# Altium integrated library ALTIUM-WE-PD-rev19a.IntLib: 320 symbols (part 1 of 5)
Pins are listed as number, name and electrical type; pins without a type are passive.

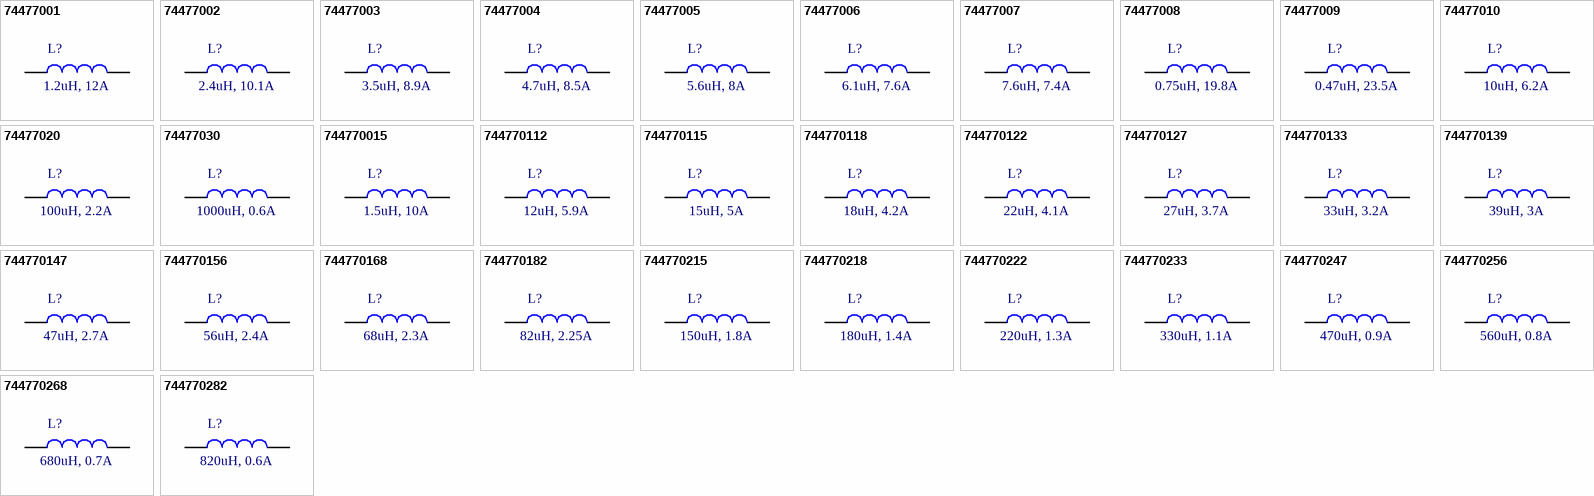
[diagram p0: symbols 74477001 to 744770282]

## 74477001
designator L?, comment 1.2uH, 12A
WE-PD SMT Power Inductor, size 1280, 1.2uH, 12A; Part Number: 74477001; DC Resistance max.: 7mOhm; Self Resonant Frequency: 45MHz; Saturation Current: 16.6A; ComponentLink1Description: Manufacturer; ComponentLink1URL: http://www.we-online.de; ComponentLink2Description: Datasheet; ComponentLink2URL: https://katalog.we-online.com/pbs/datasheet/74477001.pdf; Published Date: April 2019; Publisher: Wurth Elektronik; Rated Current: 12A; Size: 1280; Inductance: 1.2uH; Operating Temperature: -40 to +125degC; Mounting Technology: SMT; Packaging: Tape and Reel
footprint WE-PD_1280
pins: 1, 2

## 74477002
designator L?, comment 2.4uH, 10.1A
WE-PD SMT Power Inductor, size 1280, 2.4uH, 10.1A; Part Number: 74477002; DC Resistance max.: 12mOhm; Self Resonant Frequency: 41MHz; Saturation Current: 14.3A; ComponentLink1Description: Manufacturer; ComponentLink1URL: http://www.we-online.de; ComponentLink2Description: Datasheet; ComponentLink2URL: https://katalog.we-online.com/pbs/datasheet/74477002.pdf; Published Date: April 2019; Publisher: Wurth Elektronik; Rated Current: 10.1A; Size: 1280; Inductance: 2.4uH; Operating Temperature: -40 to +125degC; Mounting Technology: SMT; Packaging: Tape and Reel
footprint WE-PD_1280
pins: 1, 2

## 74477003
designator L?, comment 3.5uH, 8.9A
WE-PD SMT Power Inductor, size 1280, 3.5uH, 8.9A; Part Number: 74477003; DC Resistance max.: 14mOhm; Self Resonant Frequency: 37.5MHz; Saturation Current: 9.6A; ComponentLink1Description: Manufacturer; ComponentLink1URL: http://www.we-online.de; ComponentLink2Description: Datasheet; ComponentLink2URL: https://katalog.we-online.com/pbs/datasheet/74477003.pdf; Published Date: April 2019; Publisher: Wurth Elektronik; Rated Current: 8.9A; Size: 1280; Inductance: 3.5uH; Operating Temperature: -40 to +125degC; Mounting Technology: SMT; Packaging: Tape and Reel
footprint WE-PD_1280
pins: 1, 2

## 74477004
designator L?, comment 4.7uH, 8.5A
WE-PD SMT Power Inductor, size 1280, 4.7uH, 8.5A; Part Number: 74477004; DC Resistance max.: 16mOhm; Self Resonant Frequency: 31.2MHz; Saturation Current: 9.3A; ComponentLink1Description: Manufacturer; ComponentLink1URL: http://www.we-online.de; ComponentLink2Description: Datasheet; ComponentLink2URL: https://katalog.we-online.com/pbs/datasheet/74477004.pdf; Published Date: April 2019; Publisher: Wurth Elektronik; Rated Current: 8.5A; Size: 1280; Inductance: 4.7uH; Operating Temperature: -40 to +125degC; Mounting Technology: SMT; Packaging: Tape and Reel
footprint WE-PD_1280
pins: 1, 2

## 74477005
designator L?, comment 5.6uH, 8A
WE-PD SMT Power Inductor, size 1280, 5.6uH, 8A; Part Number: 74477005; DC Resistance max.: 17mOhm; Self Resonant Frequency: 24MHz; Saturation Current: 8.2A; ComponentLink1Description: Manufacturer; ComponentLink1URL: http://www.we-online.de; ComponentLink2Description: Datasheet; ComponentLink2URL: https://katalog.we-online.com/pbs/datasheet/74477005.pdf; Published Date: April 2019; Publisher: Wurth Elektronik; Rated Current: 8A; Size: 1280; Inductance: 5.6uH; Operating Temperature: -40 to +125degC; Mounting Technology: SMT; Packaging: Tape and Reel
footprint WE-PD_1280
pins: 1, 2

## 74477006
designator L?, comment 6.1uH, 7.6A
WE-PD SMT Power Inductor, size 1280, 6.1uH, 7.6A; Part Number: 74477006; DC Resistance max.: 18mOhm; Self Resonant Frequency: 25MHz; Saturation Current: 8.6A; ComponentLink1Description: Manufacturer; ComponentLink1URL: http://www.we-online.de; ComponentLink2Description: Datasheet; ComponentLink2URL: https://katalog.we-online.com/pbs/datasheet/74477006.pdf; Published Date: April 2019; Publisher: Wurth Elektronik; Rated Current: 7.6A; Size: 1280; Inductance: 6.1uH; Operating Temperature: -40 to +125degC; Mounting Technology: SMT; Packaging: Tape and Reel
footprint WE-PD_1280
pins: 1, 2

## 74477007
designator L?, comment 7.6uH, 7.4A
WE-PD SMT Power Inductor, size 1280, 7.6uH, 7.4A; Part Number: 74477007; DC Resistance max.: 20mOhm; Self Resonant Frequency: 21.3MHz; Saturation Current: 8A; ComponentLink1Description: Manufacturer; ComponentLink1URL: http://www.we-online.de; ComponentLink2Description: Datasheet; ComponentLink2URL: https://katalog.we-online.com/pbs/datasheet/74477007.pdf; Published Date: April 2019; Publisher: Wurth Elektronik; Rated Current: 7.4A; Size: 1280; Inductance: 7.6uH; Operating Temperature: -40 to +125degC; Mounting Technology: SMT; Packaging: Tape and Reel
footprint WE-PD_1280
pins: 1, 2

## 74477008
designator L?, comment 0.75uH, 19.8A
WE-PD SMT Power Inductor, size 1280, 0.75uH, 19.8A; Part Number: 74477008; DC Resistance max.: 4mOhm; Self Resonant Frequency: 110MHz; Saturation Current: 21A; ComponentLink1Description: Manufacturer; ComponentLink1URL: http://www.we-online.de; ComponentLink2Description: Datasheet; ComponentLink2URL: https://katalog.we-online.com/pbs/datasheet/74477008.pdf; Published Date: April 2019; Publisher: Wurth Elektronik; Rated Current: 19.8A; Size: 1280; Inductance: 0.75uH; Operating Temperature: -40 to +125degC; Mounting Technology: SMT; Packaging: Tape and Reel
footprint WE-PD_1280
pins: 1, 2

## 74477009
designator L?, comment 0.47uH, 23.5A
WE-PD SMT Power Inductor, size 1280, 0.47uH, 23.5A; Part Number: 74477009; DC Resistance max.: 3mOhm; Self Resonant Frequency: 120MHz; Saturation Current: 26.4A; ComponentLink1Description: Manufacturer; ComponentLink1URL: http://www.we-online.de; ComponentLink2Description: Datasheet; ComponentLink2URL: https://katalog.we-online.com/pbs/datasheet/74477009.pdf; Published Date: April 2019; Publisher: Wurth Elektronik; Rated Current: 23.5A; Size: 1280; Inductance: 0.47uH; Operating Temperature: -40 to +125degC; Mounting Technology: SMT; Packaging: Tape and Reel
footprint WE-PD_1280
pins: 1, 2

## 74477010
designator L?, comment 10uH, 6.2A
WE-PD SMT Power Inductor, size 1280, 10uH, 6.2A; Part Number: 74477010; DC Resistance max.: 22mOhm; Self Resonant Frequency: 18MHz; Saturation Current: 6.6A; ComponentLink1Description: Manufacturer; ComponentLink1URL: http://www.we-online.de; ComponentLink2Description: Datasheet; ComponentLink2URL: https://katalog.we-online.com/pbs/datasheet/74477010.pdf; Published Date: April 2019; Publisher: Wurth Elektronik; Rated Current: 6.2A; Size: 1280; Inductance: 10uH; Operating Temperature: -40 to +125degC; Mounting Technology: SMT; Packaging: Tape and Reel
footprint WE-PD_1280
pins: 1, 2

## 74477020
designator L?, comment 100uH, 2.2A
WE-PD SMT Power Inductor, size 1280, 100uH, 2.2A; Part Number: 74477020; DC Resistance max.: 220mOhm; Self Resonant Frequency: 5.2MHz; Saturation Current: 2.4A; ComponentLink1Description: Manufacturer; ComponentLink1URL: http://www.we-online.de; ComponentLink2Description: Datasheet; ComponentLink2URL: https://katalog.we-online.com/pbs/datasheet/74477020.pdf; Published Date: April 2019; Publisher: Wurth Elektronik; Rated Current: 2.2A; Size: 1280; Inductance: 100uH; Operating Temperature: -40 to +125degC; Mounting Technology: SMT; Packaging: Tape and Reel
footprint WE-PD_1280
pins: 1, 2

## 74477030
designator L?, comment 1000uH, 0.6A
WE-PD SMT Power Inductor, size 1280, 1000uH, 0.6A; Part Number: 74477030; DC Resistance max.: 1820mOhm; Self Resonant Frequency: 1.8MHz; Saturation Current: 0.7A; ComponentLink1Description: Manufacturer; ComponentLink1URL: http://www.we-online.de; ComponentLink2Description: Datasheet; ComponentLink2URL: https://katalog.we-online.com/pbs/datasheet/74477030.pdf; Published Date: April 2019; Publisher: Wurth Elektronik; Rated Current: 0.6A; Size: 1280; Inductance: 1000uH; Operating Temperature: -40 to +125degC; Mounting Technology: SMT; Packaging: Tape and Reel
footprint WE-PD_1280
pins: 1, 2

## 744770015
designator L?, comment 1.5uH, 10A
WE-PD SMT Power Inductor, size 1280, 1.5uH, 10A; Part Number: 744770015; DC Resistance max.: 6mOhm; Self Resonant Frequency: 42MHz; Saturation Current: 12A; ComponentLink1Description: Manufacturer; ComponentLink1URL: http://www.we-online.de; ComponentLink2Description: Datasheet; ComponentLink2URL: https://katalog.we-online.com/pbs/datasheet/744770015.pdf; Published Date: April 2019; Publisher: Wurth Elektronik; Rated Current: 10A; Size: 1280; Inductance: 1.5uH; Operating Temperature: -40 to +125degC; Mounting Technology: SMT; Packaging: Tape and Reel
footprint WE-PD_1280
pins: 1, 2

## 744770112
designator L?, comment 12uH, 5.9A
WE-PD SMT Power Inductor, size 1280, 12uH, 5.9A; Part Number: 744770112; DC Resistance max.: 24mOhm; Self Resonant Frequency: 16MHz; Saturation Current: 6.3A; ComponentLink1Description: Manufacturer; ComponentLink1URL: http://www.we-online.de; ComponentLink2Description: Datasheet; ComponentLink2URL: https://katalog.we-online.com/pbs/datasheet/744770112.pdf; Published Date: April 2019; Publisher: Wurth Elektronik; Rated Current: 5.9A; Size: 1280; Inductance: 12uH; Operating Temperature: -40 to +125degC; Mounting Technology: SMT; Packaging: Tape and Reel
footprint WE-PD_1280
pins: 1, 2

## 744770115
designator L?, comment 15uH, 5A
WE-PD SMT Power Inductor, size 1280, 15uH, 5A; Part Number: 744770115; DC Resistance max.: 27mOhm; Self Resonant Frequency: 14.5MHz; Saturation Current: 6A; ComponentLink1Description: Manufacturer; ComponentLink1URL: http://www.we-online.de; ComponentLink2Description: Datasheet; ComponentLink2URL: https://katalog.we-online.com/pbs/datasheet/744770115.pdf; Published Date: April 2019; Publisher: Wurth Elektronik; Rated Current: 5A; Size: 1280; Inductance: 15uH; Operating Temperature: -40 to +125degC; Mounting Technology: SMT; Packaging: Tape and Reel
footprint WE-PD_1280
pins: 1, 2

## 744770118
designator L?, comment 18uH, 4.2A
WE-PD SMT Power Inductor, size 1280, 18uH, 4.2A; Part Number: 744770118; DC Resistance max.: 39mOhm; Self Resonant Frequency: 13.2MHz; Saturation Current: 5.4A; ComponentLink1Description: Manufacturer; ComponentLink1URL: http://www.we-online.de; ComponentLink2Description: Datasheet; ComponentLink2URL: https://katalog.we-online.com/pbs/datasheet/744770118.pdf; Published Date: April 2019; Publisher: Wurth Elektronik; Rated Current: 4.2A; Size: 1280; Inductance: 18uH; Operating Temperature: -40 to +125degC; Mounting Technology: SMT; Packaging: Tape and Reel
footprint WE-PD_1280
pins: 1, 2

## 744770122
designator L?, comment 22uH, 4.1A
WE-PD SMT Power Inductor, size 1280, 22uH, 4.1A; Part Number: 744770122; DC Resistance max.: 43mOhm; Self Resonant Frequency: 12MHz; Saturation Current: 5A; ComponentLink1Description: Manufacturer; ComponentLink1URL: http://www.we-online.de; ComponentLink2Description: Datasheet; ComponentLink2URL: https://katalog.we-online.com/pbs/datasheet/744770122.pdf; Published Date: April 2019; Publisher: Wurth Elektronik; Rated Current: 4.1A; Size: 1280; Inductance: 22uH; Operating Temperature: -40 to +125degC; Mounting Technology: SMT; Packaging: Tape and Reel
footprint WE-PD_1280
pins: 1, 2

## 744770127
designator L?, comment 27uH, 3.7A
WE-PD SMT Power Inductor, size 1280, 27uH, 3.7A; Part Number: 744770127; DC Resistance max.: 46mOhm; Self Resonant Frequency: 10MHz; Saturation Current: 3.8A; ComponentLink1Description: Manufacturer; ComponentLink1URL: http://www.we-online.de; ComponentLink2Description: Datasheet; ComponentLink2URL: https://katalog.we-online.com/pbs/datasheet/744770127.pdf; Published Date: April 2019; Publisher: Wurth Elektronik; Rated Current: 3.7A; Size: 1280; Inductance: 27uH; Operating Temperature: -40 to +125degC; Mounting Technology: SMT; Packaging: Tape and Reel
footprint WE-PD_1280
pins: 1, 2

## 744770133
designator L?, comment 33uH, 3.2A
WE-PD SMT Power Inductor, size 1280, 33uH, 3.2A; Part Number: 744770133; DC Resistance max.: 64mOhm; Self Resonant Frequency: 8.5MHz; Saturation Current: 3.6A; ComponentLink1Description: Manufacturer; ComponentLink1URL: http://www.we-online.de; ComponentLink2Description: Datasheet; ComponentLink2URL: https://katalog.we-online.com/pbs/datasheet/744770133.pdf; Published Date: April 2019; Publisher: Wurth Elektronik; Rated Current: 3.2A; Size: 1280; Inductance: 33uH; Operating Temperature: -40 to +125degC; Mounting Technology: SMT; Packaging: Tape and Reel
footprint WE-PD_1280
pins: 1, 2

## 744770139
designator L?, comment 39uH, 3A
WE-PD SMT Power Inductor, size 1280, 39uH, 3A; Part Number: 744770139; DC Resistance max.: 73mOhm; Self Resonant Frequency: 8.2MHz; Saturation Current: 3.5A; ComponentLink1Description: Manufacturer; ComponentLink1URL: http://www.we-online.de; ComponentLink2Description: Datasheet; ComponentLink2URL: https://katalog.we-online.com/pbs/datasheet/744770139.pdf; Published Date: April 2019; Publisher: Wurth Elektronik; Rated Current: 3A; Size: 1280; Inductance: 39uH; Operating Temperature: -40 to +125degC; Mounting Technology: SMT; Packaging: Tape and Reel
footprint WE-PD_1280
pins: 1, 2

## 744770147
designator L?, comment 47uH, 2.7A
WE-PD SMT Power Inductor, size 1280, 47uH, 2.7A; Part Number: 744770147; DC Resistance max.: 100mOhm; Self Resonant Frequency: 7.9MHz; Saturation Current: 3A; ComponentLink1Description: Manufacturer; ComponentLink1URL: http://www.we-online.de; ComponentLink2Description: Datasheet; ComponentLink2URL: https://katalog.we-online.com/pbs/datasheet/744770147.pdf; Published Date: April 2019; Publisher: Wurth Elektronik; Rated Current: 2.7A; Size: 1280; Inductance: 47uH; Operating Temperature: -40 to +125degC; Mounting Technology: SMT; Packaging: Tape and Reel
footprint WE-PD_1280
pins: 1, 2

## 744770156
designator L?, comment 56uH, 2.4A
WE-PD SMT Power Inductor, size 1280, 56uH, 2.4A; Part Number: 744770156; DC Resistance max.: 110mOhm; Self Resonant Frequency: 7.1MHz; Saturation Current: 2.9A; ComponentLink1Description: Manufacturer; ComponentLink1URL: http://www.we-online.de; ComponentLink2Description: Datasheet; ComponentLink2URL: https://katalog.we-online.com/pbs/datasheet/744770156.pdf; Published Date: April 2019; Publisher: Wurth Elektronik; Rated Current: 2.4A; Size: 1280; Inductance: 56uH; Operating Temperature: -40 to +125degC; Mounting Technology: SMT; Packaging: Tape and Reel
footprint WE-PD_1280
pins: 1, 2

## 744770168
designator L?, comment 68uH, 2.3A
WE-PD SMT Power Inductor, size 1280, 68uH, 2.3A; Part Number: 744770168; DC Resistance max.: 140mOhm; Self Resonant Frequency: 6.4MHz; Saturation Current: 2.5A; ComponentLink1Description: Manufacturer; ComponentLink1URL: http://www.we-online.de; ComponentLink2Description: Datasheet; ComponentLink2URL: https://katalog.we-online.com/pbs/datasheet/744770168.pdf; Published Date: April 2019; Publisher: Wurth Elektronik; Rated Current: 2.3A; Size: 1280; Inductance: 68uH; Operating Temperature: -40 to +125degC; Mounting Technology: SMT; Packaging: Tape and Reel
footprint WE-PD_1280
pins: 1, 2

## 744770182
designator L?, comment 82uH, 2.25A
WE-PD SMT Power Inductor, size 1280, 82uH, 2.25A; Part Number: 744770182; DC Resistance max.: 160mOhm; Self Resonant Frequency: 5.5MHz; Saturation Current: 2.45A; ComponentLink1Description: Manufacturer; ComponentLink1URL: http://www.we-online.de; ComponentLink2Description: Datasheet; ComponentLink2URL: https://katalog.we-online.com/pbs/datasheet/744770182.pdf; Published Date: April 2019; Publisher: Wurth Elektronik; Rated Current: 2.25A; Size: 1280; Inductance: 82uH; Operating Temperature: -40 to +125degC; Mounting Technology: SMT; Packaging: Tape and Reel
footprint WE-PD_1280
pins: 1, 2

## 744770215
designator L?, comment 150uH, 1.8A
WE-PD SMT Power Inductor, size 1280, 150uH, 1.8A; Part Number: 744770215; DC Resistance max.: 280mOhm; Self Resonant Frequency: 4MHz; ComponentLink1Description: Manufacturer; ComponentLink1URL: http://www.we-online.de; ComponentLink2Description: Datasheet; ComponentLink2URL: https://katalog.we-online.com/pbs/datasheet/744770215.pdf; Published Date: April 2019; Publisher: Wurth Elektronik; Rated Current: 1.8A; Size: 1280; Inductance: 150uH; Operating Temperature: -40 to +125degC; Mounting Technology: SMT; Packaging: Tape and Reel; Saturation Current: 1.8A
footprint WE-PD_1280
pins: 1, 2

## 744770218
designator L?, comment 180uH, 1.4A
WE-PD SMT Power Inductor, size 1280, 180uH, 1.4A; Part Number: 744770218; DC Resistance max.: 350mOhm; Self Resonant Frequency: 4.2MHz; Saturation Current: 1.6A; ComponentLink1Description: Manufacturer; ComponentLink1URL: http://www.we-online.de; ComponentLink2Description: Datasheet; ComponentLink2URL: https://katalog.we-online.com/pbs/datasheet/744770218.pdf; Published Date: April 2019; Publisher: Wurth Elektronik; Rated Current: 1.4A; Size: 1280; Inductance: 180uH; Operating Temperature: -40 to +125degC; Mounting Technology: SMT; Packaging: Tape and Reel
footprint WE-PD_1280
pins: 1, 2

## 744770222
designator L?, comment 220uH, 1.3A
WE-PD SMT Power Inductor, size 1280, 220uH, 1.3A; Part Number: 744770222; DC Resistance max.: 390mOhm; Self Resonant Frequency: 3.8MHz; Saturation Current: 1.49A; ComponentLink1Description: Manufacturer; ComponentLink1URL: http://www.we-online.de; ComponentLink2Description: Datasheet; ComponentLink2URL: https://katalog.we-online.com/pbs/datasheet/744770222.pdf; Published Date: April 2019; Publisher: Wurth Elektronik; Rated Current: 1.3A; Size: 1280; Inductance: 220uH; Operating Temperature: -40 to +125degC; Mounting Technology: SMT; Packaging: Tape and Reel
footprint WE-PD_1280
pins: 1, 2

## 744770233
designator L?, comment 330uH, 1.1A
WE-PD SMT Power Inductor, size 1280, 330uH, 1.1A; Part Number: 744770233; DC Resistance max.: 640mOhm; Self Resonant Frequency: 3MHz; ComponentLink1Description: Manufacturer; ComponentLink1URL: http://www.we-online.de; ComponentLink2Description: Datasheet; ComponentLink2URL: https://katalog.we-online.com/pbs/datasheet/744770233.pdf; Published Date: April 2019; Publisher: Wurth Elektronik; Rated Current: 1.1A; Size: 1280; Inductance: 330uH; Operating Temperature: -40 to +125degC; Mounting Technology: SMT; Packaging: Tape and Reel; Saturation Current: 1.1A
footprint WE-PD_1280
pins: 1, 2

## 744770247
designator L?, comment 470uH, 0.9A
WE-PD SMT Power Inductor, size 1280, 470uH, 0.9A; Part Number: 744770247; DC Resistance max.: 980mOhm; Self Resonant Frequency: 2.6MHz; ComponentLink1Description: Manufacturer; ComponentLink1URL: http://www.we-online.de; ComponentLink2Description: Datasheet; ComponentLink2URL: https://katalog.we-online.com/pbs/datasheet/744770247.pdf; Published Date: April 2019; Publisher: Wurth Elektronik; Rated Current: 0.9A; Size: 1280; Inductance: 470uH; Operating Temperature: -40 to +125degC; Mounting Technology: SMT; Packaging: Tape and Reel; Saturation Current: 0.9A
footprint WE-PD_1280
pins: 1, 2

## 744770256
designator L?, comment 560uH, 0.8A
WE-PD SMT Power Inductor, size 1280, 560uH, 0.8A; Part Number: 744770256; DC Resistance max.: 1070mOhm; Self Resonant Frequency: 2.5MHz; Saturation Current: 0.9A; ComponentLink1Description: Manufacturer; ComponentLink1URL: http://www.we-online.de; ComponentLink2Description: Datasheet; ComponentLink2URL: https://katalog.we-online.com/pbs/datasheet/744770256.pdf; Published Date: April 2019; Publisher: Wurth Elektronik; Rated Current: 0.8A; Size: 1280; Inductance: 560uH; Operating Temperature: -40 to +125degC; Mounting Technology: SMT; Packaging: Tape and Reel
footprint WE-PD_1280
pins: 1, 2

## 744770268
designator L?, comment 680uH, 0.7A
WE-PD SMT Power Inductor, size 1280, 680uH, 0.7A; Part Number: 744770268; DC Resistance max.: 1460mOhm; Self Resonant Frequency: 2.2MHz; Saturation Current: 0.8A; ComponentLink1Description: Manufacturer; ComponentLink1URL: http://www.we-online.de; ComponentLink2Description: Datasheet; ComponentLink2URL: https://katalog.we-online.com/pbs/datasheet/744770268.pdf; Published Date: April 2019; Publisher: Wurth Elektronik; Rated Current: 0.7A; Size: 1280; Inductance: 680uH; Operating Temperature: -40 to +125degC; Mounting Technology: SMT; Packaging: Tape and Reel
footprint WE-PD_1280
pins: 1, 2

## 744770282
designator L?, comment 820uH, 0.6A
WE-PD SMT Power Inductor, size 1280, 820uH, 0.6A; Part Number: 744770282; DC Resistance max.: 1640mOhm; Self Resonant Frequency: 2MHz; Saturation Current: 0.8A; ComponentLink1Description: Manufacturer; ComponentLink1URL: http://www.we-online.de; ComponentLink2Description: Datasheet; ComponentLink2URL: https://katalog.we-online.com/pbs/datasheet/744770282.pdf; Published Date: April 2019; Publisher: Wurth Elektronik; Rated Current: 0.6A; Size: 1280; Inductance: 820uH; Operating Temperature: -40 to +125degC; Mounting Technology: SMT; Packaging: Tape and Reel
footprint WE-PD_1280
pins: 1, 2


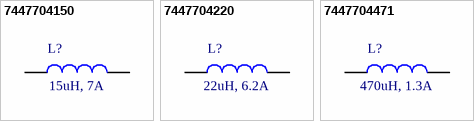
[diagram p1: symbols 7447704150 to 7447704471]

## 7447704150
designator L?, comment 15uH, 7A
WE-PD SMT Power Inductor, size 1510, 15uH, 7A; Part Number: 7447704150; DC Resistance max.: 26mOhm; Self Resonant Frequency: 20.5MHz; Saturation Current: 8.8A; ComponentLink1Description: Manufacturer; ComponentLink1URL: http://www.we-online.de; ComponentLink2Description: Datasheet; ComponentLink2URL: https://katalog.we-online.com/pbs/datasheet/7447704150.pdf; Published Date: April 2019; Publisher: Wurth Elektronik; Rated Current: 7A; Size: 1510; Inductance: 15uH; Operating Temperature: -40 to +125degC; Mounting Technology: SMT; Packaging: Tape and Reel
footprint WE-PD_1510
pins: 1, 2

## 7447704220
designator L?, comment 22uH, 6.2A
WE-PD SMT Power Inductor, size 1510, 22uH, 6.2A; Part Number: 7447704220; DC Resistance max.: 33mOhm; Self Resonant Frequency: 11.5MHz; Saturation Current: 7.2A; ComponentLink1Description: Manufacturer; ComponentLink1URL: http://www.we-online.de; ComponentLink2Description: Datasheet; ComponentLink2URL: https://katalog.we-online.com/pbs/datasheet/7447704220.pdf; Published Date: April 2019; Publisher: Wurth Elektronik; Rated Current: 6.2A; Size: 1510; Inductance: 22uH; Operating Temperature: -40 to +125degC; Mounting Technology: SMT; Packaging: Tape and Reel
footprint WE-PD_1510
pins: 1, 2

## 7447704471
designator L?, comment 470uH, 1.3A
WE-PD SMT Power Inductor, size 1510, 470uH, 1.3A; Part Number: 7447704471; DC Resistance max.: 500mOhm; Self Resonant Frequency: 1.7MHz; Saturation Current: 1.7A; ComponentLink1Description: Manufacturer; ComponentLink1URL: http://www.we-online.de; ComponentLink2Description: Datasheet; ComponentLink2URL: https://katalog.we-online.com/pbs/datasheet/7447704471.pdf; Published Date: April 2019; Publisher: Wurth Elektronik; Rated Current: 1.3A; Size: 1510; Inductance: 470uH; Operating Temperature: -40 to +125degC; Mounting Technology: SMT; Packaging: Tape and Reel
footprint WE-PD_1510
pins: 1, 2


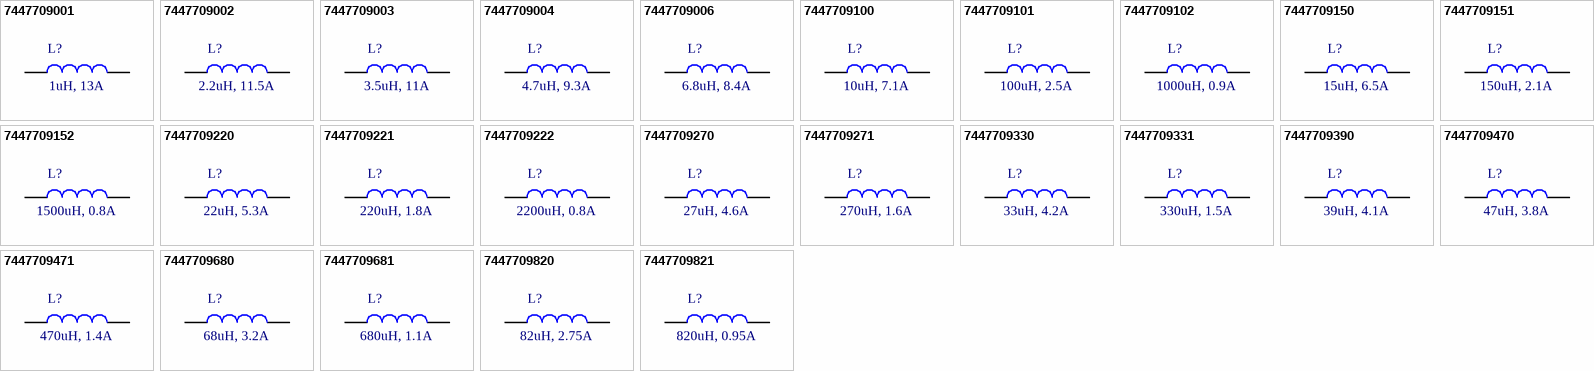
[diagram p2: symbols 7447709001 to 7447709821]

## 7447709001
designator L?, comment 1uH, 13A
WE-PD SMT Power Inductor, size 1210, 1uH, 13A; Part Number: 7447709001; DC Resistance max.: 6mOhm; Self Resonant Frequency: 120MHz; Saturation Current: 25A; ComponentLink1Description: Manufacturer; ComponentLink1URL: http://www.we-online.de; ComponentLink2Description: Datasheet; ComponentLink2URL: https://katalog.we-online.com/pbs/datasheet/7447709001.pdf; Published Date: April 2019; Publisher: Wurth Elektronik; Rated Current: 13A; Size: 1210; Inductance: 1uH; Operating Temperature: -40 to +125degC; Mounting Technology: SMT; Packaging: Tape and Reel
footprint WE-PD_1210
pins: 1, 2

## 7447709002
designator L?, comment 2.2uH, 11.5A
WE-PD SMT Power Inductor, size 1210, 2.2uH, 11.5A; Part Number: 7447709002; DC Resistance max.: 6mOhm; Self Resonant Frequency: 65MHz; Saturation Current: 20A; ComponentLink1Description: Manufacturer; ComponentLink1URL: http://www.we-online.de; ComponentLink2Description: Datasheet; ComponentLink2URL: https://katalog.we-online.com/pbs/datasheet/7447709002.pdf; Published Date: April 2019; Publisher: Wurth Elektronik; Rated Current: 11.5A; Size: 1210; Inductance: 2.2uH; Operating Temperature: -40 to +125degC; Mounting Technology: SMT; Packaging: Tape and Reel
footprint WE-PD_1210
pins: 1, 2

## 7447709003
designator L?, comment 3.5uH, 11A
WE-PD SMT Power Inductor, size 1210, 3.5uH, 11A; Part Number: 7447709003; DC Resistance max.: 9mOhm; Self Resonant Frequency: 45MHz; Saturation Current: 16.5A; ComponentLink1Description: Manufacturer; ComponentLink1URL: http://www.we-online.de; ComponentLink2Description: Datasheet; ComponentLink2URL: https://katalog.we-online.com/pbs/datasheet/7447709003.pdf; Published Date: April 2019; Publisher: Wurth Elektronik; Rated Current: 11A; Size: 1210; Inductance: 3.5uH; Operating Temperature: -40 to +125degC; Mounting Technology: SMT; Packaging: Tape and Reel
footprint WE-PD_1210
pins: 1, 2

## 7447709004
designator L?, comment 4.7uH, 9.3A
WE-PD SMT Power Inductor, size 1210, 4.7uH, 9.3A; Part Number: 7447709004; DC Resistance max.: 11mOhm; Self Resonant Frequency: 38MHz; Saturation Current: 13A; ComponentLink1Description: Manufacturer; ComponentLink1URL: http://www.we-online.de; ComponentLink2Description: Datasheet; ComponentLink2URL: https://katalog.we-online.com/pbs/datasheet/7447709004.pdf; Published Date: April 2019; Publisher: Wurth Elektronik; Rated Current: 9.3A; Size: 1210; Inductance: 4.7uH; Operating Temperature: -40 to +125degC; Mounting Technology: SMT; Packaging: Tape and Reel
footprint WE-PD_1210
pins: 1, 2

## 7447709006
designator L?, comment 6.8uH, 8.4A
WE-PD SMT Power Inductor, size 1210, 6.8uH, 8.4A; Part Number: 7447709006; DC Resistance max.: 14mOhm; Self Resonant Frequency: 23MHz; Saturation Current: 12.8A; ComponentLink1Description: Manufacturer; ComponentLink1URL: http://www.we-online.de; ComponentLink2Description: Datasheet; ComponentLink2URL: https://katalog.we-online.com/pbs/datasheet/7447709006.pdf; Published Date: April 2019; Publisher: Wurth Elektronik; Rated Current: 8.4A; Size: 1210; Inductance: 6.8uH; Operating Temperature: -40 to +125degC; Mounting Technology: SMT; Packaging: Tape and Reel
footprint WE-PD_1210
pins: 1, 2

## 7447709100
designator L?, comment 10uH, 7.1A
WE-PD SMT Power Inductor, size 1210, 10uH, 7.1A; Part Number: 7447709100; DC Resistance max.: 21mOhm; Self Resonant Frequency: 21MHz; Saturation Current: 10.5A; ComponentLink1Description: Manufacturer; ComponentLink1URL: http://www.we-online.de; ComponentLink2Description: Datasheet; ComponentLink2URL: https://katalog.we-online.com/pbs/datasheet/7447709100.pdf; Published Date: April 2019; Publisher: Wurth Elektronik; Rated Current: 7.1A; Size: 1210; Inductance: 10uH; Operating Temperature: -40 to +125degC; Mounting Technology: SMT; Packaging: Tape and Reel
footprint WE-PD_1210
pins: 1, 2

## 7447709101
designator L?, comment 100uH, 2.5A
WE-PD SMT Power Inductor, size 1210, 100uH, 2.5A; Part Number: 7447709101; DC Resistance max.: 110mOhm; Self Resonant Frequency: 4.3MHz; Saturation Current: 3.1A; ComponentLink1Description: Manufacturer; ComponentLink1URL: http://www.we-online.de; ComponentLink2Description: Datasheet; ComponentLink2URL: https://katalog.we-online.com/pbs/datasheet/7447709101.pdf; Published Date: April 2019; Publisher: Wurth Elektronik; Rated Current: 2.5A; Size: 1210; Inductance: 100uH; Operating Temperature: -40 to +125degC; Mounting Technology: SMT; Packaging: Tape and Reel
footprint WE-PD_1210
pins: 1, 2

## 7447709102
designator L?, comment 1000uH, 0.9A
WE-PD SMT Power Inductor, size 1210, 1000uH, 0.9A; Part Number: 7447709102; DC Resistance max.: 1200mOhm; Self Resonant Frequency: 1.1MHz; Saturation Current: 1A; ComponentLink1Description: Manufacturer; ComponentLink1URL: http://www.we-online.de; ComponentLink2Description: Datasheet; ComponentLink2URL: https://katalog.we-online.com/pbs/datasheet/7447709102.pdf; Published Date: April 2019; Publisher: Wurth Elektronik; Rated Current: 0.9A; Size: 1210; Inductance: 1000uH; Operating Temperature: -40 to +125degC; Mounting Technology: SMT; Packaging: Tape and Reel
footprint WE-PD_1210
pins: 1, 2

## 7447709150
designator L?, comment 15uH, 6.5A
WE-PD SMT Power Inductor, size 1210, 15uH, 6.5A; Part Number: 7447709150; DC Resistance max.: 26mOhm; Self Resonant Frequency: 17MHz; Saturation Current: 8A; ComponentLink1Description: Manufacturer; ComponentLink1URL: http://www.we-online.de; ComponentLink2Description: Datasheet; ComponentLink2URL: https://katalog.we-online.com/pbs/datasheet/7447709150.pdf; Published Date: April 2019; Publisher: Wurth Elektronik; Rated Current: 6.5A; Size: 1210; Inductance: 15uH; Operating Temperature: -40 to +125degC; Mounting Technology: SMT; Packaging: Tape and Reel
footprint WE-PD_1210
pins: 1, 2

## 7447709151
designator L?, comment 150uH, 2.1A
WE-PD SMT Power Inductor, size 1210, 150uH, 2.1A; Part Number: 7447709151; DC Resistance max.: 200mOhm; Self Resonant Frequency: 3.5MHz; Saturation Current: 2.7A; ComponentLink1Description: Manufacturer; ComponentLink1URL: http://www.we-online.de; ComponentLink2Description: Datasheet; ComponentLink2URL: https://katalog.we-online.com/pbs/datasheet/7447709151.pdf; Published Date: April 2019; Publisher: Wurth Elektronik; Rated Current: 2.1A; Size: 1210; Inductance: 150uH; Operating Temperature: -40 to +125degC; Mounting Technology: SMT; Packaging: Tape and Reel
footprint WE-PD_1210
pins: 1, 2

## 7447709152
designator L?, comment 1500uH, 0.8A
WE-PD SMT Power Inductor, size 1210, 1500uH, 0.8A; Part Number: 7447709152; DC Resistance max.: 2300mOhm; Self Resonant Frequency: 0.9MHz; ComponentLink1Description: Manufacturer; ComponentLink1URL: http://www.we-online.de; ComponentLink2Description: Datasheet; ComponentLink2URL: https://katalog.we-online.com/pbs/datasheet/7447709152.pdf; Published Date: April 2019; Publisher: Wurth Elektronik; Rated Current: 0.8A; Size: 1210; Inductance: 1500uH; Operating Temperature: -40 to +125degC; Mounting Technology: SMT; Packaging: Tape and Reel; Saturation Current: 0.8A
footprint WE-PD_1210
pins: 1, 2

## 7447709220
designator L?, comment 22uH, 5.3A
WE-PD SMT Power Inductor, size 1210, 22uH, 5.3A; Part Number: 7447709220; DC Resistance max.: 28mOhm; Self Resonant Frequency: 10MHz; Saturation Current: 6.5A; ComponentLink1Description: Manufacturer; ComponentLink1URL: http://www.we-online.de; ComponentLink2Description: Datasheet; ComponentLink2URL: https://katalog.we-online.com/pbs/datasheet/7447709220.pdf; Published Date: April 2019; Publisher: Wurth Elektronik; Rated Current: 5.3A; Size: 1210; Inductance: 22uH; Operating Temperature: -40 to +125degC; Mounting Technology: SMT; Packaging: Tape and Reel
footprint WE-PD_1210
pins: 1, 2

## 7447709221
designator L?, comment 220uH, 1.8A
WE-PD SMT Power Inductor, size 1210, 220uH, 1.8A; Part Number: 7447709221; DC Resistance max.: 300mOhm; Self Resonant Frequency: 2.7MHz; Saturation Current: 2.2A; ComponentLink1Description: Manufacturer; ComponentLink1URL: http://www.we-online.de; ComponentLink2Description: Datasheet; ComponentLink2URL: https://katalog.we-online.com/pbs/datasheet/7447709221.pdf; Published Date: April 2019; Publisher: Wurth Elektronik; Rated Current: 1.8A; Size: 1210; Inductance: 220uH; Operating Temperature: -40 to +125degC; Mounting Technology: SMT; Packaging: Tape and Reel
footprint WE-PD_1210
pins: 1, 2

## 7447709222
designator L?, comment 2200uH, 0.8A
WE-PD SMT Power Inductor, size 1210, 2200uH, 0.8A; Part Number: 7447709222; DC Resistance max.: 3750mOhm; Self Resonant Frequency: 0.66MHz; Saturation Current: 0.75A; ComponentLink1Description: Manufacturer; ComponentLink1URL: http://www.we-online.de; ComponentLink2Description: Datasheet; ComponentLink2URL: https://katalog.we-online.com/pbs/datasheet/7447709222.pdf; Published Date: April 2019; Publisher: Wurth Elektronik; Rated Current: 0.8A; Size: 1210; Inductance: 2200uH; Operating Temperature: -40 to +125degC; Mounting Technology: SMT; Packaging: Tape and Reel
footprint WE-PD_1210
pins: 1, 2

## 7447709270
designator L?, comment 27uH, 4.6A
WE-PD SMT Power Inductor, size 1210, 27uH, 4.6A; Part Number: 7447709270; DC Resistance max.: 40mOhm; Self Resonant Frequency: 8MHz; Saturation Current: 5.8A; ComponentLink1Description: Manufacturer; ComponentLink1URL: http://www.we-online.de; ComponentLink2Description: Datasheet; ComponentLink2URL: https://katalog.we-online.com/pbs/datasheet/7447709270.pdf; Published Date: April 2019; Publisher: Wurth Elektronik; Rated Current: 4.6A; Size: 1210; Inductance: 27uH; Operating Temperature: -40 to +125degC; Mounting Technology: SMT; Packaging: Tape and Reel
footprint WE-PD_1210
pins: 1, 2

## 7447709271
designator L?, comment 270uH, 1.6A
WE-PD SMT Power Inductor, size 1210, 270uH, 1.6A; Part Number: 7447709271; DC Resistance max.: 330mOhm; Self Resonant Frequency: 2.5MHz; Saturation Current: 2.1A; ComponentLink1Description: Manufacturer; ComponentLink1URL: http://www.we-online.de; ComponentLink2Description: Datasheet; ComponentLink2URL: https://katalog.we-online.com/pbs/datasheet/7447709271.pdf; Published Date: April 2019; Publisher: Wurth Elektronik; Rated Current: 1.6A; Size: 1210; Inductance: 270uH; Operating Temperature: -40 to +125degC; Mounting Technology: SMT; Packaging: Tape and Reel
footprint WE-PD_1210
pins: 1, 2

## 7447709330
designator L?, comment 33uH, 4.2A
WE-PD SMT Power Inductor, size 1210, 33uH, 4.2A; Part Number: 7447709330; DC Resistance max.: 45mOhm; Self Resonant Frequency: 8.5MHz; Saturation Current: 5.5A; ComponentLink1Description: Manufacturer; ComponentLink1URL: http://www.we-online.de; ComponentLink2Description: Datasheet; ComponentLink2URL: https://katalog.we-online.com/pbs/datasheet/7447709330.pdf; Published Date: April 2019; Publisher: Wurth Elektronik; Rated Current: 4.2A; Size: 1210; Inductance: 33uH; Operating Temperature: -40 to +125degC; Mounting Technology: SMT; Packaging: Tape and Reel
footprint WE-PD_1210
pins: 1, 2

## 7447709331
designator L?, comment 330uH, 1.5A
WE-PD SMT Power Inductor, size 1210, 330uH, 1.5A; Part Number: 7447709331; DC Resistance max.: 430mOhm; Self Resonant Frequency: 2MHz; Saturation Current: 1.7A; ComponentLink1Description: Manufacturer; ComponentLink1URL: http://www.we-online.de; ComponentLink2Description: Datasheet; ComponentLink2URL: https://katalog.we-online.com/pbs/datasheet/7447709331.pdf; Published Date: April 2019; Publisher: Wurth Elektronik; Rated Current: 1.5A; Size: 1210; Inductance: 330uH; Operating Temperature: -40 to +125degC; Mounting Technology: SMT; Packaging: Tape and Reel
footprint WE-PD_1210
pins: 1, 2

## 7447709390
designator L?, comment 39uH, 4.1A
WE-PD SMT Power Inductor, size 1210, 39uH, 4.1A; Part Number: 7447709390; DC Resistance max.: 56mOhm; Self Resonant Frequency: 6MHz; Saturation Current: 5A; ComponentLink1Description: Manufacturer; ComponentLink1URL: http://www.we-online.de; ComponentLink2Description: Datasheet; ComponentLink2URL: https://katalog.we-online.com/pbs/datasheet/7447709390.pdf; Published Date: April 2019; Publisher: Wurth Elektronik; Rated Current: 4.1A; Size: 1210; Inductance: 39uH; Operating Temperature: -40 to +125degC; Mounting Technology: SMT; Packaging: Tape and Reel
footprint WE-PD_1210
pins: 1, 2

## 7447709470
designator L?, comment 47uH, 3.8A
WE-PD SMT Power Inductor, size 1210, 47uH, 3.8A; Part Number: 7447709470; DC Resistance max.: 60mOhm; Self Resonant Frequency: 6.5MHz; Saturation Current: 4.5A; ComponentLink1Description: Manufacturer; ComponentLink1URL: http://www.we-online.de; ComponentLink2Description: Datasheet; ComponentLink2URL: https://katalog.we-online.com/pbs/datasheet/7447709470.pdf; Published Date: April 2019; Publisher: Wurth Elektronik; Rated Current: 3.8A; Size: 1210; Inductance: 47uH; Operating Temperature: -40 to +125degC; Mounting Technology: SMT; Packaging: Tape and Reel
footprint WE-PD_1210
pins: 1, 2

## 7447709471
designator L?, comment 470uH, 1.4A
WE-PD SMT Power Inductor, size 1210, 470uH, 1.4A; Part Number: 7447709471; DC Resistance max.: 560mOhm; Self Resonant Frequency: 1.8MHz; Saturation Current: 1.5A; ComponentLink1Description: Manufacturer; ComponentLink1URL: http://www.we-online.de; ComponentLink2Description: Datasheet; ComponentLink2URL: https://katalog.we-online.com/pbs/datasheet/7447709471.pdf; Published Date: April 2019; Publisher: Wurth Elektronik; Rated Current: 1.4A; Size: 1210; Inductance: 470uH; Operating Temperature: -40 to +125degC; Mounting Technology: SMT; Packaging: Tape and Reel
footprint WE-PD_1210
pins: 1, 2

## 7447709680
designator L?, comment 68uH, 3.2A
WE-PD SMT Power Inductor, size 1210, 68uH, 3.2A; Part Number: 7447709680; DC Resistance max.: 89mOhm; Self Resonant Frequency: 5.5MHz; Saturation Current: 3.6A; ComponentLink1Description: Manufacturer; ComponentLink1URL: http://www.we-online.de; ComponentLink2Description: Datasheet; ComponentLink2URL: https://katalog.we-online.com/pbs/datasheet/7447709680.pdf; Published Date: April 2019; Publisher: Wurth Elektronik; Rated Current: 3.2A; Size: 1210; Inductance: 68uH; Operating Temperature: -40 to +125degC; Mounting Technology: SMT; Packaging: Tape and Reel
footprint WE-PD_1210
pins: 1, 2

## 7447709681
designator L?, comment 680uH, 1.1A
WE-PD SMT Power Inductor, size 1210, 680uH, 1.1A; Part Number: 7447709681; DC Resistance max.: 825mOhm; Self Resonant Frequency: 1.5MHz; Saturation Current: 1.3A; ComponentLink1Description: Manufacturer; ComponentLink1URL: http://www.we-online.de; ComponentLink2Description: Datasheet; ComponentLink2URL: https://katalog.we-online.com/pbs/datasheet/7447709681.pdf; Published Date: April 2019; Publisher: Wurth Elektronik; Rated Current: 1.1A; Size: 1210; Inductance: 680uH; Operating Temperature: -40 to +125degC; Mounting Technology: SMT; Packaging: Tape and Reel
footprint WE-PD_1210
pins: 1, 2

## 7447709820
designator L?, comment 82uH, 2.75A
WE-PD SMT Power Inductor, size 1210, 82uH, 2.75A; Part Number: 7447709820; DC Resistance max.: 105mOhm; Self Resonant Frequency: 4.5MHz; Saturation Current: 3.4A; ComponentLink1Description: Manufacturer; ComponentLink1URL: http://www.we-online.de; ComponentLink2Description: Datasheet; ComponentLink2URL: https://katalog.we-online.com/pbs/datasheet/7447709820.pdf; Published Date: April 2019; Publisher: Wurth Elektronik; Rated Current: 2.75A; Size: 1210; Inductance: 82uH; Operating Temperature: -40 to +125degC; Mounting Technology: SMT; Packaging: Tape and Reel
footprint WE-PD_1210
pins: 1, 2

## 7447709821
designator L?, comment 820uH, 0.95A
WE-PD SMT Power Inductor, size 1210, 820uH, 0.95A; Part Number: 7447709821; DC Resistance max.: 1000mOhm; Self Resonant Frequency: 1.2MHz; Saturation Current: 1.1A; ComponentLink1Description: Manufacturer; ComponentLink1URL: http://www.we-online.de; ComponentLink2Description: Datasheet; ComponentLink2URL: https://katalog.we-online.com/pbs/datasheet/7447709821.pdf; Published Date: April 2019; Publisher: Wurth Elektronik; Rated Current: 0.95A; Size: 1210; Inductance: 820uH; Operating Temperature: -40 to +125degC; Mounting Technology: SMT; Packaging: Tape and Reel
footprint WE-PD_1210
pins: 1, 2


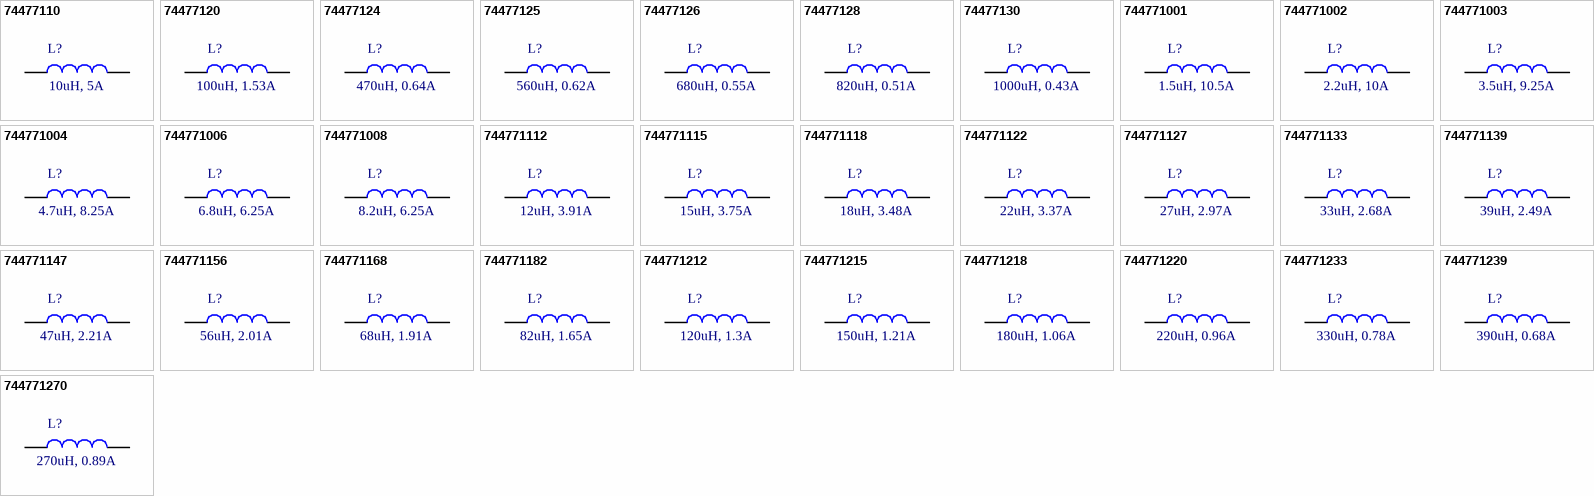
[diagram p3: symbols 74477110 to 744771270]

## 74477110
designator L?, comment 10uH, 5A
WE-PD SMT Power Inductor, size 1260, 10uH, 5A; Part Number: 74477110; DC Resistance max.: 25mOhm; Self Resonant Frequency: 21.5MHz; Saturation Current: 5.5A; ComponentLink1Description: Manufacturer; ComponentLink1URL: http://www.we-online.de; ComponentLink2Description: Datasheet; ComponentLink2URL: https://katalog.we-online.com/pbs/datasheet/74477110.pdf; Published Date: April 2019; Publisher: Wurth Elektronik; Rated Current: 5A; Size: 1260; Inductance: 10uH; Operating Temperature: -40 to +125degC; Mounting Technology: SMT; Packaging: Tape and Reel
footprint WE-PD_1260
pins: 1, 2

## 74477120
designator L?, comment 100uH, 1.53A
WE-PD SMT Power Inductor, size 1260, 100uH, 1.53A; Part Number: 74477120; DC Resistance max.: 160mOhm; Self Resonant Frequency: 6.6MHz; Saturation Current: 1.7A; ComponentLink1Description: Manufacturer; ComponentLink1URL: http://www.we-online.de; ComponentLink2Description: Datasheet; ComponentLink2URL: https://katalog.we-online.com/pbs/datasheet/74477120.pdf; Published Date: April 2019; Publisher: Wurth Elektronik; Rated Current: 1.53A; Size: 1260; Inductance: 100uH; Operating Temperature: -40 to +125degC; Mounting Technology: SMT; Packaging: Tape and Reel
footprint WE-PD_1260
pins: 1, 2

## 74477124
designator L?, comment 470uH, 0.64A
WE-PD SMT Power Inductor, size 1260, 470uH, 0.64A; Part Number: 74477124; DC Resistance max.: 770mOhm; Self Resonant Frequency: 2.6MHz; Saturation Current: 0.8A; ComponentLink1Description: Manufacturer; ComponentLink1URL: http://www.we-online.de; ComponentLink2Description: Datasheet; ComponentLink2URL: https://katalog.we-online.com/pbs/datasheet/74477124.pdf; Published Date: April 2019; Publisher: Wurth Elektronik; Rated Current: 0.64A; Size: 1260; Inductance: 470uH; Operating Temperature: -40 to +125degC; Mounting Technology: SMT; Packaging: Tape and Reel
footprint WE-PD_1260
pins: 1, 2

## 74477125
designator L?, comment 560uH, 0.62A
WE-PD SMT Power Inductor, size 1260, 560uH, 0.62A; Part Number: 74477125; DC Resistance max.: 860mOhm; Self Resonant Frequency: 2.5MHz; Saturation Current: 0.7A; ComponentLink1Description: Manufacturer; ComponentLink1URL: http://www.we-online.de; ComponentLink2Description: Datasheet; ComponentLink2URL: https://katalog.we-online.com/pbs/datasheet/74477125.pdf; Published Date: April 2019; Publisher: Wurth Elektronik; Rated Current: 0.62A; Size: 1260; Inductance: 560uH; Operating Temperature: -40 to +125degC; Mounting Technology: SMT; Packaging: Tape and Reel
footprint WE-PD_1260
pins: 1, 2

## 74477126
designator L?, comment 680uH, 0.55A
WE-PD SMT Power Inductor, size 1260, 680uH, 0.55A; Part Number: 74477126; DC Resistance max.: 1200mOhm; Self Resonant Frequency: 2.3MHz; Saturation Current: 0.68A; ComponentLink1Description: Manufacturer; ComponentLink1URL: http://www.we-online.de; ComponentLink2Description: Datasheet; ComponentLink2URL: https://katalog.we-online.com/pbs/datasheet/74477126.pdf; Published Date: April 2019; Publisher: Wurth Elektronik; Rated Current: 0.55A; Size: 1260; Inductance: 680uH; Operating Temperature: -40 to +125degC; Mounting Technology: SMT; Packaging: Tape and Reel
footprint WE-PD_1260
pins: 1, 2

## 74477128
designator L?, comment 820uH, 0.51A
WE-PD SMT Power Inductor, size 1260, 820uH, 0.51A; Part Number: 74477128; DC Resistance max.: 1340mOhm; Self Resonant Frequency: 2.1MHz; Saturation Current: 0.6A; ComponentLink1Description: Manufacturer; ComponentLink1URL: http://www.we-online.de; ComponentLink2Description: Datasheet; ComponentLink2URL: https://katalog.we-online.com/pbs/datasheet/74477128.pdf; Published Date: April 2019; Publisher: Wurth Elektronik; Rated Current: 0.51A; Size: 1260; Inductance: 820uH; Operating Temperature: -40 to +125degC; Mounting Technology: SMT; Packaging: Tape and Reel
footprint WE-PD_1260
pins: 1, 2

## 74477130
designator L?, comment 1000uH, 0.43A
WE-PD SMT Power Inductor, size 1260, 1000uH, 0.43A; Part Number: 74477130; DC Resistance max.: 1530mOhm; Self Resonant Frequency: 1.9MHz; Saturation Current: 0.5A; ComponentLink1Description: Manufacturer; ComponentLink1URL: http://www.we-online.de; ComponentLink2Description: Datasheet; ComponentLink2URL: https://katalog.we-online.com/pbs/datasheet/74477130.pdf; Published Date: April 2019; Publisher: Wurth Elektronik; Rated Current: 0.43A; Size: 1260; Inductance: 1000uH; Operating Temperature: -40 to +125degC; Mounting Technology: SMT; Packaging: Tape and Reel
footprint WE-PD_1260
pins: 1, 2

## 744771001
designator L?, comment 1.5uH, 10.5A
WE-PD SMT Power Inductor, size 1260, 1.5uH, 10.5A; Part Number: 744771001; DC Resistance max.: 6mOhm; Self Resonant Frequency: 60MHz; Saturation Current: 12.5A; ComponentLink1Description: Manufacturer; ComponentLink1URL: http://www.we-online.de; ComponentLink2Description: Datasheet; ComponentLink2URL: https://katalog.we-online.com/pbs/datasheet/744771001.pdf; Published Date: April 2019; Publisher: Wurth Elektronik; Rated Current: 10.5A; Size: 1260; Inductance: 1.5uH; Operating Temperature: -40 to +125degC; Mounting Technology: SMT; Packaging: Tape and Reel
footprint WE-PD_1260
pins: 1, 2

## 744771002
designator L?, comment 2.2uH, 10A
WE-PD SMT Power Inductor, size 1260, 2.2uH, 10A; Part Number: 744771002; DC Resistance max.: 8mOhm; Self Resonant Frequency: 50MHz; Saturation Current: 11A; ComponentLink1Description: Manufacturer; ComponentLink1URL: http://www.we-online.de; ComponentLink2Description: Datasheet; ComponentLink2URL: https://katalog.we-online.com/pbs/datasheet/744771002.pdf; Published Date: April 2019; Publisher: Wurth Elektronik; Rated Current: 10A; Size: 1260; Inductance: 2.2uH; Operating Temperature: -40 to +125degC; Mounting Technology: SMT; Packaging: Tape and Reel
footprint WE-PD_1260
pins: 1, 2

## 744771003
designator L?, comment 3.5uH, 9.25A
WE-PD SMT Power Inductor, size 1260, 3.5uH, 9.25A; Part Number: 744771003; DC Resistance max.: 8mOhm; Self Resonant Frequency: 40MHz; Saturation Current: 9A; ComponentLink1Description: Manufacturer; ComponentLink1URL: http://www.we-online.de; ComponentLink2Description: Datasheet; ComponentLink2URL: https://katalog.we-online.com/pbs/datasheet/744771003.pdf; Published Date: April 2019; Publisher: Wurth Elektronik; Rated Current: 9.25A; Size: 1260; Inductance: 3.5uH; Operating Temperature: -40 to +125degC; Mounting Technology: SMT; Packaging: Tape and Reel
footprint WE-PD_1260
pins: 1, 2

## 744771004
designator L?, comment 4.7uH, 8.25A
WE-PD SMT Power Inductor, size 1260, 4.7uH, 8.25A; Part Number: 744771004; DC Resistance max.: 11mOhm; Self Resonant Frequency: 35MHz; Saturation Current: 8A; ComponentLink1Description: Manufacturer; ComponentLink1URL: http://www.we-online.de; ComponentLink2Description: Datasheet; ComponentLink2URL: https://katalog.we-online.com/pbs/datasheet/744771004.pdf; Published Date: April 2019; Publisher: Wurth Elektronik; Rated Current: 8.25A; Size: 1260; Inductance: 4.7uH; Operating Temperature: -40 to +125degC; Mounting Technology: SMT; Packaging: Tape and Reel
footprint WE-PD_1260
pins: 1, 2

## 744771006
designator L?, comment 6.8uH, 6.25A
WE-PD SMT Power Inductor, size 1260, 6.8uH, 6.25A; Part Number: 744771006; DC Resistance max.: 22mOhm; Self Resonant Frequency: 27MHz; Saturation Current: 6.4A; ComponentLink1Description: Manufacturer; ComponentLink1URL: http://www.we-online.de; ComponentLink2Description: Datasheet; ComponentLink2URL: https://katalog.we-online.com/pbs/datasheet/744771006.pdf; Published Date: April 2019; Publisher: Wurth Elektronik; Rated Current: 6.25A; Size: 1260; Inductance: 6.8uH; Operating Temperature: -40 to +125degC; Mounting Technology: SMT; Packaging: Tape and Reel
footprint WE-PD_1260
pins: 1, 2

## 744771008
designator L?, comment 8.2uH, 6.25A
WE-PD SMT Power Inductor, size 1260, 8.2uH, 6.25A; Part Number: 744771008; DC Resistance max.: 20mOhm; Self Resonant Frequency: 25MHz; ComponentLink1Description: Manufacturer; ComponentLink1URL: http://www.we-online.de; ComponentLink2Description: Datasheet; ComponentLink2URL: https://katalog.we-online.com/pbs/datasheet/744771008.pdf; Published Date: April 2019; Publisher: Wurth Elektronik; Rated Current: 6.25A; Size: 1260; Inductance: 8.2uH; Operating Temperature: -40 to +125degC; Mounting Technology: SMT; Packaging: Tape and Reel; Saturation Current: 6.25A
footprint WE-PD_1260
pins: 1, 2

## 744771112
designator L?, comment 12uH, 3.91A
WE-PD SMT Power Inductor, size 1260, 12uH, 3.91A; Part Number: 744771112; DC Resistance max.: 27mOhm; Self Resonant Frequency: 19.7MHz; Saturation Current: 4.85A; ComponentLink1Description: Manufacturer; ComponentLink1URL: http://www.we-online.de; ComponentLink2Description: Datasheet; ComponentLink2URL: https://katalog.we-online.com/pbs/datasheet/744771112.pdf; Published Date: April 2019; Publisher: Wurth Elektronik; Rated Current: 3.91A; Size: 1260; Inductance: 12uH; Operating Temperature: -40 to +125degC; Mounting Technology: SMT; Packaging: Tape and Reel
footprint WE-PD_1260
pins: 1, 2

## 744771115
designator L?, comment 15uH, 3.75A
WE-PD SMT Power Inductor, size 1260, 15uH, 3.75A; Part Number: 744771115; DC Resistance max.: 30mOhm; Self Resonant Frequency: 16.6MHz; Saturation Current: 4.55A; ComponentLink1Description: Manufacturer; ComponentLink1URL: http://www.we-online.de; ComponentLink2Description: Datasheet; ComponentLink2URL: https://katalog.we-online.com/pbs/datasheet/744771115.pdf; Published Date: April 2019; Publisher: Wurth Elektronik; Rated Current: 3.75A; Size: 1260; Inductance: 15uH; Operating Temperature: -40 to +125degC; Mounting Technology: SMT; Packaging: Tape and Reel
footprint WE-PD_1260
pins: 1, 2

## 744771118
designator L?, comment 18uH, 3.48A
WE-PD SMT Power Inductor, size 1260, 18uH, 3.48A; Part Number: 744771118; DC Resistance max.: 34mOhm; Self Resonant Frequency: 15MHz; Saturation Current: 4.3A; ComponentLink1Description: Manufacturer; ComponentLink1URL: http://www.we-online.de; ComponentLink2Description: Datasheet; ComponentLink2URL: https://katalog.we-online.com/pbs/datasheet/744771118.pdf; Published Date: April 2019; Publisher: Wurth Elektronik; Rated Current: 3.48A; Size: 1260; Inductance: 18uH; Operating Temperature: -40 to +125degC; Mounting Technology: SMT; Packaging: Tape and Reel
footprint WE-PD_1260
pins: 1, 2

## 744771122
designator L?, comment 22uH, 3.37A
WE-PD SMT Power Inductor, size 1260, 22uH, 3.37A; Part Number: 744771122; DC Resistance max.: 36mOhm; Self Resonant Frequency: 13.5MHz; Saturation Current: 3.77A; ComponentLink1Description: Manufacturer; ComponentLink1URL: http://www.we-online.de; ComponentLink2Description: Datasheet; ComponentLink2URL: https://katalog.we-online.com/pbs/datasheet/744771122.pdf; Published Date: April 2019; Publisher: Wurth Elektronik; Rated Current: 3.37A; Size: 1260; Inductance: 22uH; Operating Temperature: -40 to +125degC; Mounting Technology: SMT; Packaging: Tape and Reel
footprint WE-PD_1260
pins: 1, 2